# Altium footprint library MCU089B.PcbLib: 51 footprints (part 4 of 4)
Each footprint in its own frame and in the unit in brackets; x right, y up, seen from the top. Pads: shape width x height; smd on the part's side, far side on the other; paste and mask are expansions set on the pad; w line width, h text height; cw(c..) or ccw(c..) is an arc to the next point about the centre after c.
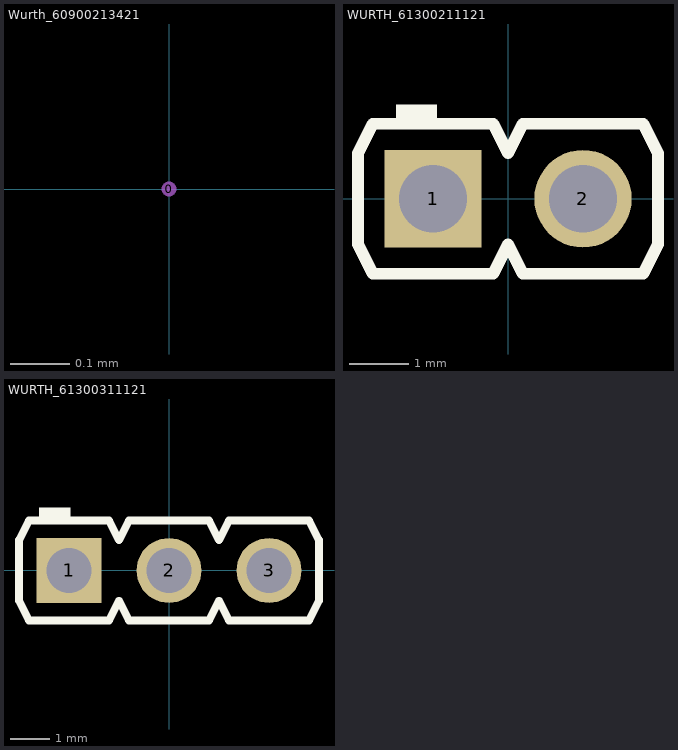
[diagram p3: the footprints below, top view; thin cyan lines are the x and y axes]

## Wurth_60900213421 [mil] "Shunt, 2.54mm, Black"
height 240.94
pads (1):
  round 1 on Mech3: 0(0,0)
3D body "60900213421.stp": height 337.72, standoff 102.28, extent -98.43,-48.03 98.43,48.03

## WURTH_61300211121 [mm] "Header, 2.54mm, 2x1, TH"
height 8.89
pads (2):
  rect 1.65x1.65 hole 1.15: 1(-1.27,0)
  round 1.65 hole 1.15: 2(1.27,0)
Top Overlay:
  rectangle: -1.9,1.27 -1.2,1.6
  lines w0.2: -2.54,-0.77 -2.29,-1.27 -0.25,-1.27 0,-0.77 0.25,-1.27 2.29,-1.27 2.54,-0.77 2.54,0.77 2.29,1.27 0.25,1.27 0,0.77 -0.25,1.27 -2.29,1.27 -2.54,0.77 -2.54,-0.77
Mechanical 5:
  lines w0.1: -2.54,-0.77 -2.54,0.77 -2.29,1.27 -0.25,1.27 0,0.77 0.25,1.27 2.29,1.27 2.54,0.77 2.54,-0.77 2.29,-1.27 0.25,-1.27 0,-0.77 -0.25,-1.27 -2.29,-1.27 -2.54,-0.77
  text ".Designator" at -1.524,-0.508 h1.02
3D body "61300211121.stp": height 8.54, standoff -3, extent -2.54,-1.27 2.54,1.27

## WURTH_61300311121 [mm] "Header, 2.54mm, 3x1, TH"
height 8.89
pads (3):
  rect 1.65x1.65 hole 1.15: 1(-2.54,0)
  round 1.65 hole 1.15: 2(0,0) 3(2.54,0)
Top Overlay:
  rectangle: -3.3,1.3 -2.5,1.6
  lines w0.2: -3.81,-0.77 -3.81,0.77 -3.56,1.27 -1.52,1.27 -1.27,0.77 -1.02,1.27 1.02,1.27 1.27,0.77 1.52,1.27 3.56,1.27 3.81,0.77 3.81,-0.77 3.56,-1.27 1.52,-1.27 1.27,-0.77 1.02,-1.27 -1.02,-1.27 -1.27,-0.77 -1.52,-1.27 -3.56,-1.27 -3.81,-0.77
Mechanical 5:
  lines w0.1: -3.81,-0.77 -3.56,-1.27 -1.52,-1.27 -1.27,-0.77 -1.02,-1.27 1.02,-1.27 1.27,-0.77 1.52,-1.27 3.56,-1.27 3.81,-0.77 3.81,0.77 3.56,1.27 1.52,1.27 1.27,0.77 1.02,1.27 -1.02,1.27 -1.27,0.77 -1.52,1.27 -3.56,1.27 -3.81,0.77 -3.81,-0.77
  text ".Designator" at -1.524,-0.508 h1.02
3D body "61300311121.stp": height 8.54, standoff -3, extent -3.81,-1.27 3.81,1.27